# EAGLE library part OLED (library MainLibrary)
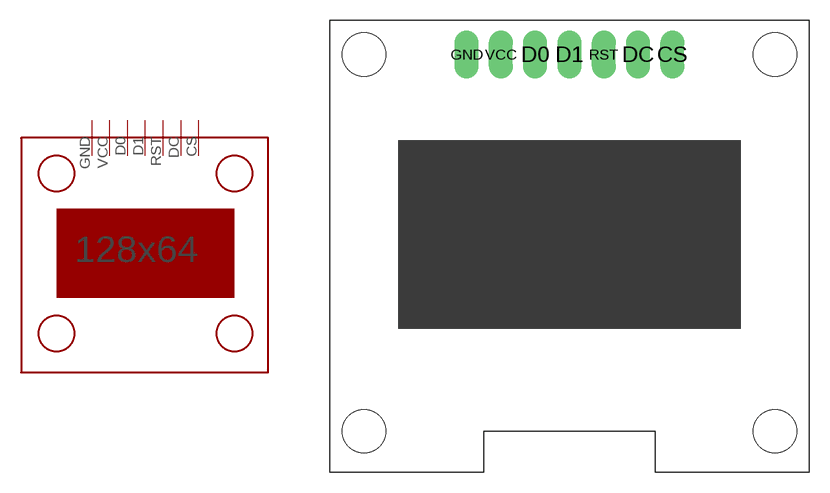
[diagram p0: symbol with the pads of 1,3"OLED; footprint 1,3"OLED]

Designator prefix 1,3"OLED

## OLED  [1,3"OLED]
CS  CS
D0  D0
D1  D1
DC  DC
GND  GND  pwr
RST  RST
VCC  VCC  pwr

## Footprint 1,3"OLED (pad centres in mm)
drill 0.8 pad 1.778 long: CS 7.62,12.7; D0 -2.54,12.7; D1 0,12.7; DC 5.08,12.7; GND -7.62,12.7; RST 2.54,12.7; VCC -5.08,12.7
hole 3.2 at -15.24,12.7
hole 3.2 at 15.24,12.7
hole 3.2 at 15.24,-15.24
hole 3.2 at -15.24,-15.24